# EAGLE library part TEN30 (library 000001)
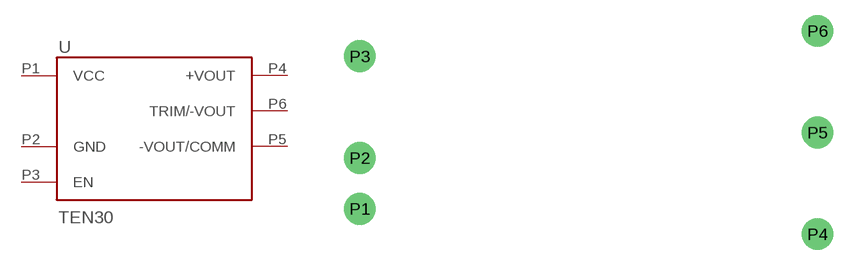
[diagram p81: symbol with the pads of TEN30; footprint TEN30]

Designator prefix -

## TEN30K  [TEN30]
P1  VCC  pwr
P2  GND  pwr
P3  EN  in
P4  +VOUT  pwr
P5  -VOUT/COMM  pwr
P6  TRIM/-VOUT  pwr

## Footprint TEN30 (pad centres in mm)
drill 0.5 pad 3.175 round: P1 -21.59,-7.62; P2 -21.59,-2.54; P3 -21.59,7.62; P4 24.13,-10.16; P5 24.13,0; P6 24.13,10.16